# Altium integrated library TI Power Management Battery Management.IntLib: 949 symbols (part 19 of 62)
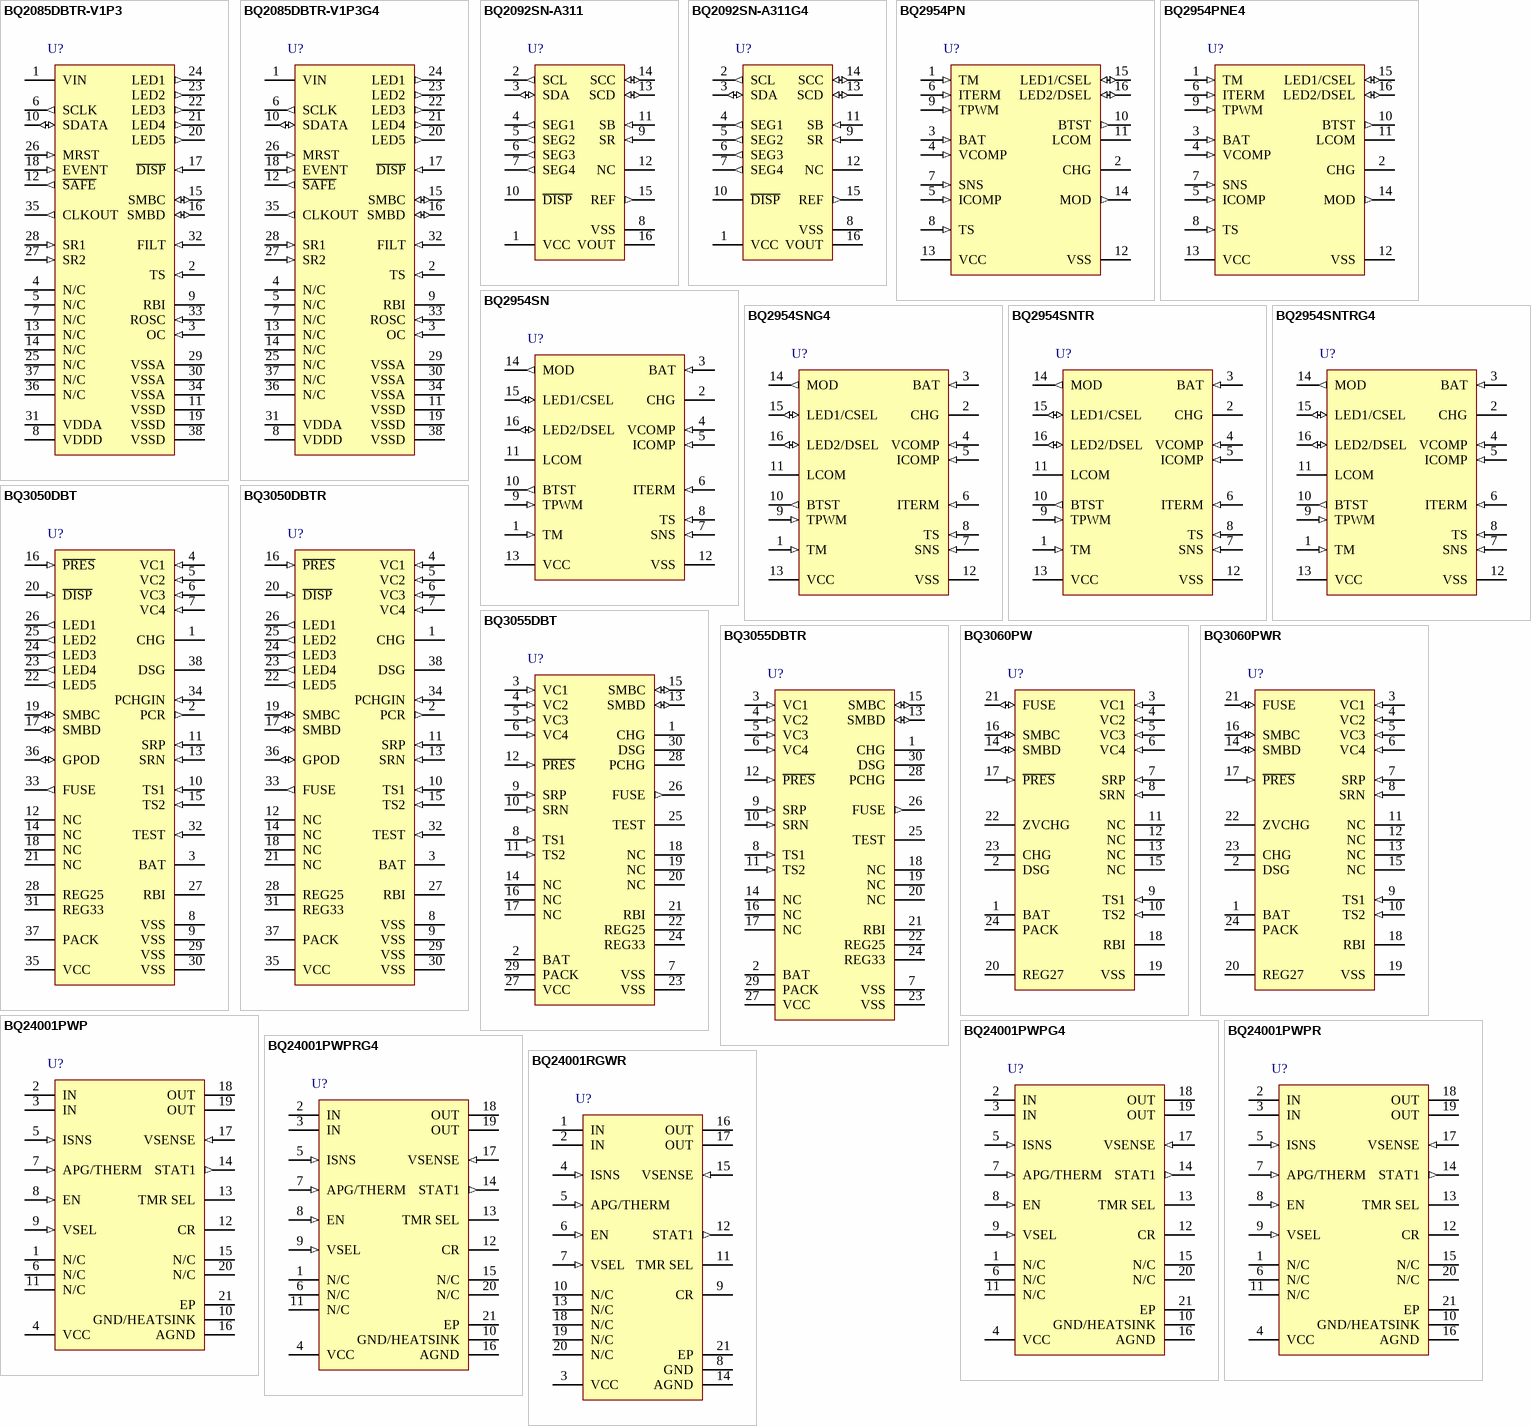
[diagram p52: symbols BQ2085DBTR-V1P3 to BQ24001RGWR]

## BQ2954SNTRG4
designator U?
Switch-Mode Li-Ion Charge Controller, 4.5 V, 0 to 70 degC, 16-pin SOIC (D), Green (RoHS & no Sb/Br); PartNumber: BQ2954SNTRG4; Manufacturer: Texas Instruments; Lead Acid: N; Li-Ion: Y; SubFamily: Battery Charge Management; Vin(Min)(V): 4.5; DatasheetVersion: SLUS064; PackageVersion: revM, Jun-2011; PackageReference: D16; PackageDescription: 16-Pin Plastic Small Outline Integrated Circuit, 9.9 x 3.9 mm, Pitch 1.27 mm Pitch; Supplier 1: Digi-Key; Supplier Part Number 1: BQ2954SNTRG4-ND; Supplier 2: Newark; Supplier Part Number 2: 24K4405; Supplier 3: Mouser; Supplier Part Number 3: 595-BQ2954SNTRG4; Eco-Plan: Green (RoHS & no Sb/Br); Li-Polymer: Y; NiCd: N; NiMH: N; Over Voltage Protection: N; Mounting Technology: Surface Mount; Code_JEDEC: MS-012AC; ComponentLink1Description: Datasheet; ComponentLink1URL: http://www.ti.com/general/docs/lit/getliterature.tsp?genericPartNumber=BQ2954&fileType=pdf
footprint D16_N (SOIC, 16-Leads, Body 9.9x3.9mm, Pitch 1.27mm, IPC Medium Density)
footprint D16_L (SOIC, 16-Leads, Body 9.9x3.9mm, Pitch 1.27mm, IPC High Density)
footprint D16_M (SOIC, 16-Leads, Body 9.9x3.9mm, Pitch 1.27mm, IPC Low Density)
pins: 1 TM (in) "Time-out programming input", 2 CHG (oc) "Charge active output", 3 BAT (in) "Battery voltage input", 4 VCOMP (in) "Voltage loop comp input", 5 ICOMP (in) "Current loop comp input", 6 ITERM (in) "Minimum current termination select input", 7 SNS (in) "Sense resistor input", 8 TS (in) "Temperature sense input", 9 TPWM (in) "Regulator timebase input", 10 BTST (out) "Battery test output", 11 LCOM (hiz) "Common LED output", 12 VSS (power) "System ground", 13 VCC (power) "5.0V+/-10% power", 14 MOD (out) "Modulation control output", 15 LED1/CSEL (io) "Charge status output 1/Charge sense select input", 16 LED2/DSEL (io) "Charge status output 2/Display select input"

## BQ3050DBT
designator U?
SBS 1.1-Compliant 2S to 4S Battery Gas Gauge & Protection, -40 to 85 degC, 38-pin TSSOP (DBT), Green (RoHS & no Sb/Br); PartNumber: BQ3050DBT; Manufacturer: Texas Instruments; Lead Acid: N; Li-Ion: Y; SubFamily: Battery Fuel Gauge; DatasheetVersion: SLUSA92A; PackageVersion: revI, Mar-2011; PackageReference: DBT38; PackageDescription: 38-Pin Plastic Small Outline 0.5 mm Pitch; Supplier 1: Digi-Key; Supplier Part Number 1: BQ3050DBT-ND; Supplier 2: Newark; Supplier Part Number 2: 86T9107; Supplier 3: Mouser; Supplier Part Number 3: 595-BQ3050DBT; Eco-Plan: Green (RoHS & no Sb/Br); Li-Polymer: Y; NiCd: N; NiMH: N; Over Voltage Protection: N; Mounting Technology: Surface Mount; Code_JEDEC: MO-153; ComponentLink1Description: Datasheet; ComponentLink1URL: http://www.ti.com/general/docs/lit/getliterature.tsp?genericPartNumber=BQ3050&fileType=pdf
footprint DBT38_N (TSSOP, 38-Leads, Body 9.7x4.4mm, Pitch 0.5mm, IPC Medium Density)
footprint DBT38_L (TSSOP, 38-Leads, Body 9.7x4.4mm, Pitch 0.5mm, IPC High Density)
footprint DBT38_M (TSSOP, 38-Leads, Body 9.7x4.4mm, Pitch 0.5mm, IPC Low Density)
pins: 1 CHG "Charge N-FET gate drive", 2 PCR (out) "Internal Pre-Charge FET output", 3 BAT (power) "Alternate power source", 4 VC1 (in) "Sense input for positive voltage of top most cell in stack and cell balancing input for top most cell in stack", 5 VC2 (in) "Sense input for positive voltage of third lowest cell in stack and cell balancing input for third lowest cell in stack", 6 VC3 (in) "Sense input for positive voltage of second lowest cell in stack and cell balancing input for second lowest cell in stack", 7 VC4 (in) "Sense input for positive voltage of lowest cell in stack and cell balancing input for lowest cell in stack", 8 VSS (power) "Device ground", 9 VSS (power) "Device ground", 10 TS1 (in) "Temperature sensor 1 thermistor input", 11 SRP (in) "Differential Coulomb Counter input", 12 NC (power) "Not internally connected, connect to VSS", 13 SRN (in) "Differential Coulomb Counter input", 14 NC (power) "Not internally connected, connect to VSS", 15 TS2 (in) "Temperature sensor 2 thermistor input", 16 ~{PRES} (in) "Host system present input", 17 SMBD (io) "SMBus v1.1 data line", 18 NC (power) "Not internally connected, connect to VSS", 19 SMBC (io) "SMBus v1.1 clock line", 20 ~{DISP} (in) "Display active input", 21 NC (power) "Not internally connected, connect to VSS", 22 LED5 (out) "LED display constant current sink", 23 LED4 (out) "LED display constant current sink", 24 LED3 (out) "LED display constant current sink", 25 LED2 (out) "LED display constant current sink", 26 LED1 (out) "LED display constant current sink", 27 RBI (power) "RAM backup", 28 REG25 (power) "2.5-V regulator output", 29 VSS (power) "Device ground", 30 VSS (power) "Device ground", 31 REG33 (power) "3.3-V regulator output", 32 TEST (in) "Test pin, connect to VSS through 10-k ohm resistor", 33 FUSE (out) "Fuse drive", 34 PCHGIN (in) "Internal Pre-Charge FET input", 35 VCC (power) "Power supply voltage", 36 GPOD (io) "High voltage general purpose I/O", 37 PACK (power) "Alternate power source", 38 DSG "Discharge N-FET gate drive"

## BQ3050DBTR
designator U?
SBS 1.1-Compliant 2S to 4S Battery Gas Gauge & Protection, -40 to 85 degC, 38-pin TSSOP (DBT), Green (RoHS & no Sb/Br); PartNumber: BQ3050DBTR; Manufacturer: Texas Instruments; Lead Acid: N; Li-Ion: Y; SubFamily: Battery Fuel Gauge; DatasheetVersion: SLUSA92A; PackageVersion: revI, Mar-2011; PackageReference: DBT38; PackageDescription: 38-Pin Plastic Small Outline 0.5 mm Pitch; Supplier 1: Digi-Key; Supplier Part Number 1: BQ3050DBTR-ND; Supplier 2: Newark; Supplier Part Number 2: 86T9108; Supplier 3: Mouser; Supplier Part Number 3: 595-BQ3050DBTR; Eco-Plan: Green (RoHS & no Sb/Br); Li-Polymer: Y; NiCd: N; NiMH: N; Over Voltage Protection: N; Mounting Technology: Surface Mount; Code_JEDEC: MO-153; ComponentLink1Description: Datasheet; ComponentLink1URL: http://www.ti.com/general/docs/lit/getliterature.tsp?genericPartNumber=BQ3050&fileType=pdf
footprint DBT38_N (TSSOP, 38-Leads, Body 9.7x4.4mm, Pitch 0.5mm, IPC Medium Density)
footprint DBT38_L (TSSOP, 38-Leads, Body 9.7x4.4mm, Pitch 0.5mm, IPC High Density)
footprint DBT38_M (TSSOP, 38-Leads, Body 9.7x4.4mm, Pitch 0.5mm, IPC Low Density)
pins: 1 CHG "Charge N-FET gate drive", 2 PCR (out) "Internal Pre-Charge FET output", 3 BAT (power) "Alternate power source", 4 VC1 (in) "Sense input for positive voltage of top most cell in stack and cell balancing input for top most cell in stack", 5 VC2 (in) "Sense input for positive voltage of third lowest cell in stack and cell balancing input for third lowest cell in stack", 6 VC3 (in) "Sense input for positive voltage of second lowest cell in stack and cell balancing input for second lowest cell in stack", 7 VC4 (in) "Sense input for positive voltage of lowest cell in stack and cell balancing input for lowest cell in stack", 8 VSS (power) "Device ground", 9 VSS (power) "Device ground", 10 TS1 (in) "Temperature sensor 1 thermistor input", 11 SRP (in) "Differential Coulomb Counter input", 12 NC (power) "Not internally connected, connect to VSS", 13 SRN (in) "Differential Coulomb Counter input", 14 NC (power) "Not internally connected, connect to VSS", 15 TS2 (in) "Temperature sensor 2 thermistor input", 16 ~{PRES} (in) "Host system present input", 17 SMBD (io) "SMBus v1.1 data line", 18 NC (power) "Not internally connected, connect to VSS", 19 SMBC (io) "SMBus v1.1 clock line", 20 ~{DISP} (in) "Display active input", 21 NC (power) "Not internally connected, connect to VSS", 22 LED5 (out) "LED display constant current sink", 23 LED4 (out) "LED display constant current sink", 24 LED3 (out) "LED display constant current sink", 25 LED2 (out) "LED display constant current sink", 26 LED1 (out) "LED display constant current sink", 27 RBI (power) "RAM backup", 28 REG25 (power) "2.5-V regulator output", 29 VSS (power) "Device ground", 30 VSS (power) "Device ground", 31 REG33 (power) "3.3-V regulator output", 32 TEST (in) "Test pin, connect to VSS through 10-k ohm resistor", 33 FUSE (out) "Fuse drive", 34 PCHGIN (in) "Internal Pre-Charge FET input", 35 VCC (power) "Power supply voltage", 36 GPOD (io) "High voltage general purpose I/O", 37 PACK (power) "Alternate power source", 38 DSG "Discharge N-FET gate drive"

## BQ3055DBT
designator U?
2-Series, 3-Series, and 4-Series Li-Ion Battery Pack Manager, -40 to 85 degC, 30-pin TSSOP (DBT), Green (RoHS & no Sb/Br); PartNumber: BQ3055DBT; Manufacturer: Texas Instruments; Lead Acid: N; Li-Ion: Y; SubFamily: Battery Fuel Gauge; DatasheetVersion: SLUSA91A; PackageVersion: 38596; PackageReference: DBT30; PackageDescription: 30-Pin Thin Shrink Small Outline Package 0.5 mm Pitch; Supplier 1: Digi-Key; Supplier Part Number 1: BQ3055DBT-ND; Supplier 2: Newark; Supplier Part Number 2: 92T2014; Supplier 3: Mouser; Supplier Part Number 3: 595-BQ3055DBT; Eco-Plan: Green (RoHS & no Sb/Br); Li-Polymer: Y; NiCd: N; NiMH: N; Over Voltage Protection: N; Mounting Technology: Surface Mount; Code_JEDEC: MO-153; ComponentLink1Description: Datasheet; ComponentLink1URL: http://www.ti.com/general/docs/lit/getliterature.tsp?genericPartNumber=BQ3055&fileType=pdf
footprint DBT30_N (TSSOP, 30-Leads, Body 7.8x4.4mm, Pitch 0.5mm, IPC Medium Density)
footprint DBT30_L (TSSOP, 30-Leads, Body 7.8x4.4mm, Pitch 0.5mm, IPC High Density)
footprint DBT30_M (TSSOP, 30-Leads, Body 7.8x4.4mm, Pitch 0.5mm, IPC Low Density)
pins: 1 CHG "Charge N-FET gate drive", 2 BAT (power) "Alternate power source", 3 VC1 (in) "Sense input for positive voltage of top most cell in stack and cell balancing input for top most cell in stack", 4 VC2 (in) "Sense input for positive voltage of third lowest cell in stack and cell balancing input for third lowest cell in stack", 5 VC3 (in) "Sense input for positive voltage of second lowest cell in stack and cell balancing input for second lowest cell in stack", 6 VC4 (in) "Sense input for positive voltage of lowest cell in stack and cell balancing input for lowest cell in stack", 7 VSS (power) "Device ground", 8 TS1 (in) "Temperature sensor 1 thermistor input", 9 SRP (in) "Differential Coulomb Counter input", 10 SRN (in) "Differential Coulomb Counter input", 11 TS2 (in) "Temperature sensor 2 thermistor input", 12 ~{PRES} (in) "Host system present input", 13 SMBD (io) "SMBus v1.1 data line", 14 NC (power) "Not internally connected, connect to VSS", 15 SMBC (io) "SMBus v1.1 clock line", 16 NC (power) "Not internally connected, connect to VSS", 17 NC (power) "Not internally connected, connect to VSS", 18 NC (power) "Not internally connected, connect to VSS", 19 NC (power) "Not internally connected, connect to VSS", 20 NC (power) "Not internally connected, connect to VSS", 21 RBI (power) "RAM backup", 22 REG25 (power) "2.5-V regulator output", 23 VSS (power) "Device ground", 24 REG33 (power) "3.3-V regulator output", 25 TEST "Test pin, connect to VSS through 2-k ohm resistor", 26 FUSE (out) "Fuse drive", 27 VCC (power) "Power supply voltage", 28 PCHG "Pre-charge P-FET gate drive", 29 PACK (power) "Alternate power source", 30 DSG "Discharge N-FET gate drive"

## BQ3055DBTR
designator U?
2-Series, 3-Series, and 4-Series Li-Ion Battery Pack Manager, -40 to 85 degC, 30-pin TSSOP (DBT), Green (RoHS & no Sb/Br); PartNumber: BQ3055DBTR; Manufacturer: Texas Instruments; Lead Acid: N; Li-Ion: Y; SubFamily: Battery Fuel Gauge; DatasheetVersion: SLUSA91A; PackageVersion: 38596; PackageReference: DBT30; PackageDescription: 30-Pin Thin Shrink Small Outline Package 0.5 mm Pitch; Supplier 1: Digi-Key; Supplier Part Number 1: 296-30286-2-ND; Supplier 2: Digi-Key; Supplier Part Number 2: 296-30286-1-ND; Supplier 3: Digi-Key; Supplier Part Number 3: 296-30286-6-ND; Supplier 4: Newark; Supplier Part Number 4: 92T3404; Supplier 5: Mouser; Supplier Part Number 5: 595-BQ3055DBTR; Eco-Plan: Green (RoHS & no Sb/Br); Li-Polymer: Y; NiCd: N; NiMH: N; Over Voltage Protection: N; Mounting Technology: Surface Mount; Code_JEDEC: MO-153; ComponentLink1Description: Datasheet; ComponentLink1URL: http://www.ti.com/general/docs/lit/getliterature.tsp?genericPartNumber=BQ3055&fileType=pdf
footprint DBT30_N (TSSOP, 30-Leads, Body 7.8x4.4mm, Pitch 0.5mm, IPC Medium Density)
footprint DBT30_L (TSSOP, 30-Leads, Body 7.8x4.4mm, Pitch 0.5mm, IPC High Density)
footprint DBT30_M (TSSOP, 30-Leads, Body 7.8x4.4mm, Pitch 0.5mm, IPC Low Density)
pins: 1 CHG "Charge N-FET gate drive", 2 BAT (power) "Alternate power source", 3 VC1 (in) "Sense input for positive voltage of top most cell in stack and cell balancing input for top most cell in stack", 4 VC2 (in) "Sense input for positive voltage of third lowest cell in stack and cell balancing input for third lowest cell in stack", 5 VC3 (in) "Sense input for positive voltage of second lowest cell in stack and cell balancing input for second lowest cell in stack", 6 VC4 (in) "Sense input for positive voltage of lowest cell in stack and cell balancing input for lowest cell in stack", 7 VSS (power) "Device ground", 8 TS1 (in) "Temperature sensor 1 thermistor input", 9 SRP (in) "Differential Coulomb Counter input", 10 SRN (in) "Differential Coulomb Counter input", 11 TS2 (in) "Temperature sensor 2 thermistor input", 12 ~{PRES} (in) "Host system present input", 13 SMBD (io) "SMBus v1.1 data line", 14 NC (power) "Not internally connected, connect to VSS", 15 SMBC (io) "SMBus v1.1 clock line", 16 NC (power) "Not internally connected, connect to VSS", 17 NC (power) "Not internally connected, connect to VSS", 18 NC (power) "Not internally connected, connect to VSS", 19 NC (power) "Not internally connected, connect to VSS", 20 NC (power) "Not internally connected, connect to VSS", 21 RBI (power) "RAM backup", 22 REG25 (power) "2.5-V regulator output", 23 VSS (power) "Device ground", 24 REG33 (power) "3.3-V regulator output", 25 TEST "Test pin, connect to VSS through 2-k ohm resistor", 26 FUSE (out) "Fuse drive", 27 VCC (power) "Power supply voltage", 28 PCHG "Pre-charge P-FET gate drive", 29 PACK (power) "Alternate power source", 30 DSG "Discharge N-FET gate drive"

## BQ3060PW
designator U?
SBS 1.1-Compliant Gas Gauge and Protector, -40 to 85 degC, 24-pin TSSOP (PW), Green (RoHS & no Sb/Br); PartNumber: BQ3060PW; Manufacturer: Texas Instruments; Lead Acid: N; SubFamily: Battery Fuel Gauge; DatasheetVersion: SLUS928A; PackageVersion: revG, Feb-2011; PackageReference: PW24; PackageDescription: 24-Pin Thin Small Outline Package 0.65 mm Pitch; Supplier 1: Digi-Key; Supplier Part Number 1: 296-25544-5-ND; Supplier 2: Newark; Supplier Part Number 2: 63R9864; Supplier 3: Mouser; Supplier Part Number 3: 595-BQ3060PW; Eco-Plan: Green (RoHS & no Sb/Br); Li-Ion: N; Li-Polymer: N; NiCd: N; NiMH: N; Over Voltage Protection: N; Mounting Technology: Surface Mount; Code_JEDEC: MO-153; ComponentLink1Description: Datasheet; ComponentLink1URL: http://www.ti.com/general/docs/lit/getliterature.tsp?genericPartNumber=BQ3060&fileType=pdf
footprint PW24_N (TSOP, 24-Leads, Body 7.8x4.4mm, Pitch 0.65mm, IPC Medium Density)
footprint PW24_L (TSOP, 24-Leads, Body 7.8x4.4mm, Pitch 0.65mm, IPC High Density)
footprint PW24_M (TSOP, 24-Leads, Body 7.8x4.4mm, Pitch 0.65mm, IPC Low Density)
pins: 1 BAT (power) "Power input from battery", 2 DSG "P-CH FET Drive controlling discharge", 3 VC1 (in) "Sense voltage input terminal and external cell balancing drive output for most positive cell, and battery stack measurement input.", 4 VC2 (in) "Sense voltage input terminal and external cell balancing drive output for second most positive cell.", 5 VC3 (in) "Sense voltage input terminal and external cell balancing drive output for third most positive cell.", 6 VC4 (in) "Sense voltage input terminal and external cell balancing drive output for least positive cell.", 7 SRP (in) "Analog input pin connected to the internal coulomb-counter peripheral for integrating a small voltage between SRP and SRN where SRP is the top of the sense resistor.", 8 SRN (in) "Analog input pin connected to the internal coulomb-counter peripheral for integrating a small voltage between SRP and SRN where SRN is the bottom of the sense resistor.", 9 TS1 (in) "Thermistor input TS1", 10 TS2 (in) "Thermistor input TS2", 11 NC "Keep this pin floating", 12 NC "Keep this pin floating", 13 NC "Keep this pin floating", 14 SMBD (io) "SMBus data pin", 15 NC "Keep this pin floating", 16 SMBC (io) "SMBus clock pin", 17 ~{PRES} (in) "Active low input to sense system insertion and typically requires additional ESD protection", 18 RBI (power) "RAM backup pin to provide backup potential to the internal DATA RAM if power is momentarily lost by using a capacitor attached between RBI and VSS", 19 VSS (power) "Device ground", 20 REG27 (power) "Internal power supply 2.7V bias output", 21 FUSE (io) "Push-pull fuse drive and secondary protector activation input sensing", 22 ZVCHG "P-CH precharge FET Drive controlling pre-charge and zero-volt charge", 23 CHG "P-CH FET Drive controlling charge", 24 PACK (power) "PACK positive terminal and alternative power source"

## BQ3060PWR
designator U?
SBS 1.1-Compliant Gas Gauge and Protector, -40 to 85 degC, 24-pin TSSOP (PW), Green (RoHS & no Sb/Br); PartNumber: BQ3060PWR; Manufacturer: Texas Instruments; Lead Acid: N; SubFamily: Battery Fuel Gauge; DatasheetVersion: SLUS928A; PackageVersion: revG, Feb-2011; PackageReference: PW24; PackageDescription: 24-Pin Thin Small Outline Package 0.65 mm Pitch; Supplier 1: Digi-Key; Supplier Part Number 1: BQ3060PWR-ND; Supplier 2: Newark; Supplier Part Number 2: 63R9865; Supplier 3: Mouser; Supplier Part Number 3: 595-BQ3060PWR; Eco-Plan: Green (RoHS & no Sb/Br); Li-Ion: N; Li-Polymer: N; NiCd: N; NiMH: N; Over Voltage Protection: N; Mounting Technology: Surface Mount; Code_JEDEC: MO-153; ComponentLink1Description: Datasheet; ComponentLink1URL: http://www.ti.com/general/docs/lit/getliterature.tsp?genericPartNumber=BQ3060&fileType=pdf
footprint PW24_N (TSOP, 24-Leads, Body 7.8x4.4mm, Pitch 0.65mm, IPC Medium Density)
footprint PW24_L (TSOP, 24-Leads, Body 7.8x4.4mm, Pitch 0.65mm, IPC High Density)
footprint PW24_M (TSOP, 24-Leads, Body 7.8x4.4mm, Pitch 0.65mm, IPC Low Density)
pins: 1 BAT (power) "Power input from battery", 2 DSG "P-CH FET Drive controlling discharge", 3 VC1 (in) "Sense voltage input terminal and external cell balancing drive output for most positive cell, and battery stack measurement input.", 4 VC2 (in) "Sense voltage input terminal and external cell balancing drive output for second most positive cell.", 5 VC3 (in) "Sense voltage input terminal and external cell balancing drive output for third most positive cell.", 6 VC4 (in) "Sense voltage input terminal and external cell balancing drive output for least positive cell.", 7 SRP (in) "Analog input pin connected to the internal coulomb-counter peripheral for integrating a small voltage between SRP and SRN where SRP is the top of the sense resistor.", 8 SRN (in) "Analog input pin connected to the internal coulomb-counter peripheral for integrating a small voltage between SRP and SRN where SRN is the bottom of the sense resistor.", 9 TS1 (in) "Thermistor input TS1", 10 TS2 (in) "Thermistor input TS2", 11 NC "Keep this pin floating", 12 NC "Keep this pin floating", 13 NC "Keep this pin floating", 14 SMBD (io) "SMBus data pin", 15 NC "Keep this pin floating", 16 SMBC (io) "SMBus clock pin", 17 ~{PRES} (in) "Active low input to sense system insertion and typically requires additional ESD protection", 18 RBI (power) "RAM backup pin to provide backup potential to the internal DATA RAM if power is momentarily lost by using a capacitor attached between RBI and VSS", 19 VSS (power) "Device ground", 20 REG27 (power) "Internal power supply 2.7V bias output", 21 FUSE (io) "Push-pull fuse drive and secondary protector activation input sensing", 22 ZVCHG "P-CH precharge FET Drive controlling pre-charge and zero-volt charge", 23 CHG "P-CH FET Drive controlling charge", 24 PACK (power) "PACK positive terminal and alternative power source"

## BQ24001PWP
designator U?
Linear 1 Cell Li-Ion Battery Charger with Integrated FET, One LED, 4.5 V, 0 to 70 degC, 20-pin HTSSOP (PWP), Green (RoHS & no Sb/Br); PartNumber: BQ24001PWP; Manufacturer: Texas Instruments; Lead Acid: N; Li-Ion: Y; SubFamily: Battery Charge Management; Vin(Min)(V): 4.5; DatasheetVersion: SLUS462E; PackageVersion: revI, May-2011; PackageReference: PWP20-3005X2005TP; PackageDescription: 20-Pin PowerPAD Plastic Small Outline 6.5 x 4.4 mm Body ,0.65 mm Pitch, Exposed Pad; Supplier 1: Digi-Key; Supplier Part Number 1: 296-9378-5-ND; Supplier 2: Farnell; Supplier Part Number 2: 2099952; Supplier 3: Newark; Supplier Part Number 3: 06W0652; Supplier 4: Newark; Supplier Part Number 4: 74C7630; Supplier 5: Mouser; Supplier Part Number 5: 595-BQ24001PWP; Eco-Plan: Green (RoHS & no Sb/Br); Li-Polymer: Y; NiCd: N; NiMH: N; Over Voltage Protection: N; Mounting Technology: Surface Mount; Code_JEDEC: MO-153; ComponentLink1Description: Datasheet; ComponentLink1URL: http://www.ti.com/general/docs/lit/getliterature.tsp?genericPartNumber=BQ24001&fileType=pdf
footprint PWP20-3005X2005TP_N (TSOP, 20-Leads, Body 6.5x4.4mm, Pitch 0.65mm, Thermal Pad 3.7x2.4 mm, IPC Medium Density)
footprint PWP20-3005X2005TP_L (TSOP, 20-Leads, Body 6.5x4.4mm, Pitch 0.65mm, Thermal Pad 3.7x2.4 mm, IPC High Density)
footprint PWP20-3005X2005TP_M (TSOP, 20-Leads, Body 6.5x4.4mm, Pitch 0.65mm, Thermal Pad 3.7x2.4 mm, IPC Low Density)
pins: 1 N/C "No connect. These pins must be left floating. Pin 15 is N/C on bq24001PWP only. Pin 13 is N/C on bq24001RGW only.", 2 IN (power) "Input voltage. This input provides the charging voltage for the battery.", 3 IN (power) "Input voltage. This input provides the charging voltage for the battery.", 4 VCC (power) "Supply voltage", 5 ISNS (in) "Current sense input", 6 N/C "No connect. These pins must be left floating. Pin 15 is N/C on bq24001PWP only. Pin 13 is N/C on bq24001RGW only.", 7 APG/THERM (in) "Adapter power good input/thermistor sense input", 8 EN (in) "Charge-enable input. Active-high enable input with internal pull down. Low-current stand-by mode active when EN is low.", 9 VSEL (in) "4.1 V or 4.2 V charge regulation selection input", 10 GND/HEATSINK (power) "Ground pin; connect to PowerPAD heat-sink layout pattern.", 11 N/C "No connect. These pins must be left floating. Pin 15 is N/C on bq24001PWP only. Pin 13 is N/C on bq24001RGW only.", 12 CR "Internal regulator bypass capacitor", 13 TMR SEL "Charge timer selection input", 14 STAT1 (out) "Status display output 1", 15 N/C "No connect. These pins must be left floating. Pin 15 is N/C on bq24001PWP only. Pin 13 is N/C on bq24001RGW only.", 16 AGND (power) "Ground pin; connect close to the negative battery terminal.", 17 VSENSE (in) "Battery voltage sense input", 18 OUT (power) "Charge current output", 19 OUT (power) "Charge current output", 20 N/C "No connect. These pins must be left floating. Pin 15 is N/C on bq24001PWP only. Pin 13 is N/C on bq24001RGW only.", 21 EP (power) "Exposed pad"

## BQ24001PWPG4
designator U?
Linear 1 Cell Li-Ion Battery Charger with Integrated FET, One LED, 4.5 V, 0 to 70 degC, 20-pin HTSSOP (PWP), Green (RoHS & no Sb/Br); PartNumber: BQ24001PWPG4; Manufacturer: Texas Instruments; Lead Acid: N; Li-Ion: Y; SubFamily: Battery Charge Management; Vin(Min)(V): 4.5; DatasheetVersion: SLUS462E; PackageVersion: revI, May-2011; PackageReference: PWP20-3005X2005TP; PackageDescription: 20-Pin PowerPAD Plastic Small Outline 6.5 x 4.4 mm Body ,0.65 mm Pitch, Exposed Pad; Supplier 1: Digi-Key; Supplier Part Number 1: BQ24001PWPG4-ND; Supplier 2: Newark; Supplier Part Number 2: 02M2404; Supplier 3: Mouser; Supplier Part Number 3: 595-BQ24001PWPG4; Eco-Plan: Green (RoHS & no Sb/Br); Li-Polymer: Y; NiCd: N; NiMH: N; Over Voltage Protection: N; Mounting Technology: Surface Mount; Code_JEDEC: MO-153; ComponentLink1Description: Datasheet; ComponentLink1URL: http://www.ti.com/general/docs/lit/getliterature.tsp?genericPartNumber=BQ24001&fileType=pdf
footprint PWP20-3005X2005TP_N (TSOP, 20-Leads, Body 6.5x4.4mm, Pitch 0.65mm, Thermal Pad 3.7x2.4 mm, IPC Medium Density)
footprint PWP20-3005X2005TP_L (TSOP, 20-Leads, Body 6.5x4.4mm, Pitch 0.65mm, Thermal Pad 3.7x2.4 mm, IPC High Density)
footprint PWP20-3005X2005TP_M (TSOP, 20-Leads, Body 6.5x4.4mm, Pitch 0.65mm, Thermal Pad 3.7x2.4 mm, IPC Low Density)
pins: 1 N/C "No connect. These pins must be left floating. Pin 15 is N/C on bq24001PWP only. Pin 13 is N/C on bq24001RGW only.", 2 IN (power) "Input voltage. This input provides the charging voltage for the battery.", 3 IN (power) "Input voltage. This input provides the charging voltage for the battery.", 4 VCC (power) "Supply voltage", 5 ISNS (in) "Current sense input", 6 N/C "No connect. These pins must be left floating. Pin 15 is N/C on bq24001PWP only. Pin 13 is N/C on bq24001RGW only.", 7 APG/THERM (in) "Adapter power good input/thermistor sense input", 8 EN (in) "Charge-enable input. Active-high enable input with internal pull down. Low-current stand-by mode active when EN is low.", 9 VSEL (in) "4.1 V or 4.2 V charge regulation selection input", 10 GND/HEATSINK (power) "Ground pin; connect to PowerPAD heat-sink layout pattern.", 11 N/C "No connect. These pins must be left floating. Pin 15 is N/C on bq24001PWP only. Pin 13 is N/C on bq24001RGW only.", 12 CR "Internal regulator bypass capacitor", 13 TMR SEL "Charge timer selection input", 14 STAT1 (out) "Status display output 1", 15 N/C "No connect. These pins must be left floating. Pin 15 is N/C on bq24001PWP only. Pin 13 is N/C on bq24001RGW only.", 16 AGND (power) "Ground pin; connect close to the negative battery terminal.", 17 VSENSE (in) "Battery voltage sense input", 18 OUT (power) "Charge current output", 19 OUT (power) "Charge current output", 20 N/C "No connect. These pins must be left floating. Pin 15 is N/C on bq24001PWP only. Pin 13 is N/C on bq24001RGW only.", 21 EP (power) "Exposed pad"

## BQ24001PWPR
designator U?
Linear 1 Cell Li-Ion Battery Charger with Integrated FET, One LED, 4.5 V, 0 to 70 degC, 20-pin HTSSOP (PWP), Green (RoHS & no Sb/Br); PartNumber: BQ24001PWPR; Manufacturer: Texas Instruments; Lead Acid: N; Li-Ion: Y; SubFamily: Battery Charge Management; Vin(Min)(V): 4.5; DatasheetVersion: SLUS462E; PackageVersion: revI, May-2011; PackageReference: PWP20-3005X2005TP; PackageDescription: 20-Pin PowerPAD Plastic Small Outline 6.5 x 4.4 mm Body ,0.65 mm Pitch, Exposed Pad; Supplier 1: Digi-Key; Supplier Part Number 1: BQ24001PWPR-ND; Supplier 2: Newark; Supplier Part Number 2: 74C7631; Supplier 3: Mouser; Supplier Part Number 3: 595-BQ24001PWPR; Eco-Plan: Green (RoHS & no Sb/Br); Li-Polymer: Y; NiCd: N; NiMH: N; Over Voltage Protection: N; Mounting Technology: Surface Mount; Code_JEDEC: MO-153; ComponentLink1Description: Datasheet; ComponentLink1URL: http://www.ti.com/general/docs/lit/getliterature.tsp?genericPartNumber=BQ24001&fileType=pdf
footprint PWP20-3005X2005TP_N (TSOP, 20-Leads, Body 6.5x4.4mm, Pitch 0.65mm, Thermal Pad 3.7x2.4 mm, IPC Medium Density)
footprint PWP20-3005X2005TP_L (TSOP, 20-Leads, Body 6.5x4.4mm, Pitch 0.65mm, Thermal Pad 3.7x2.4 mm, IPC High Density)
footprint PWP20-3005X2005TP_M (TSOP, 20-Leads, Body 6.5x4.4mm, Pitch 0.65mm, Thermal Pad 3.7x2.4 mm, IPC Low Density)
pins: 1 N/C "No connect. These pins must be left floating. Pin 15 is N/C on bq24001PWP only. Pin 13 is N/C on bq24001RGW only.", 2 IN (power) "Input voltage. This input provides the charging voltage for the battery.", 3 IN (power) "Input voltage. This input provides the charging voltage for the battery.", 4 VCC (power) "Supply voltage", 5 ISNS (in) "Current sense input", 6 N/C "No connect. These pins must be left floating. Pin 15 is N/C on bq24001PWP only. Pin 13 is N/C on bq24001RGW only.", 7 APG/THERM (in) "Adapter power good input/thermistor sense input", 8 EN (in) "Charge-enable input. Active-high enable input with internal pull down. Low-current stand-by mode active when EN is low.", 9 VSEL (in) "4.1 V or 4.2 V charge regulation selection input", 10 GND/HEATSINK (power) "Ground pin; connect to PowerPAD heat-sink layout pattern.", 11 N/C "No connect. These pins must be left floating. Pin 15 is N/C on bq24001PWP only. Pin 13 is N/C on bq24001RGW only.", 12 CR "Internal regulator bypass capacitor", 13 TMR SEL "Charge timer selection input", 14 STAT1 (out) "Status display output 1", 15 N/C "No connect. These pins must be left floating. Pin 15 is N/C on bq24001PWP only. Pin 13 is N/C on bq24001RGW only.", 16 AGND (power) "Ground pin; connect close to the negative battery terminal.", 17 VSENSE (in) "Battery voltage sense input", 18 OUT (power) "Charge current output", 19 OUT (power) "Charge current output", 20 N/C "No connect. These pins must be left floating. Pin 15 is N/C on bq24001PWP only. Pin 13 is N/C on bq24001RGW only.", 21 EP (power) "Exposed pad"

## BQ24001PWPRG4
designator U?
Linear 1 Cell Li-Ion Battery Charger with Integrated FET, One LED, 4.5 V, 0 to 70 degC, 20-pin HTSSOP (PWP), Green (RoHS & no Sb/Br); PartNumber: BQ24001PWPRG4; Manufacturer: Texas Instruments; Lead Acid: N; Li-Ion: Y; SubFamily: Battery Charge Management; Vin(Min)(V): 4.5; DatasheetVersion: SLUS462E; PackageVersion: revI, May-2011; PackageReference: PWP20-3005X2005TP; PackageDescription: 20-Pin PowerPAD Plastic Small Outline 6.5 x 4.4 mm Body ,0.65 mm Pitch, Exposed Pad; Supplier 1: Digi-Key; Supplier Part Number 1: BQ24001PWPRG4-ND; Supplier 2: Newark; Supplier Part Number 2: 33K4793; Supplier 3: Mouser; Supplier Part Number 3: 595-BQ24001PWPRG4; Eco-Plan: Green (RoHS & no Sb/Br); Li-Polymer: Y; NiCd: N; NiMH: N; Over Voltage Protection: N; Mounting Technology: Surface Mount; Code_JEDEC: MO-153; ComponentLink1Description: Datasheet; ComponentLink1URL: http://www.ti.com/general/docs/lit/getliterature.tsp?genericPartNumber=BQ24001&fileType=pdf
footprint PWP20-3005X2005TP_N (TSOP, 20-Leads, Body 6.5x4.4mm, Pitch 0.65mm, Thermal Pad 3.7x2.4 mm, IPC Medium Density)
footprint PWP20-3005X2005TP_L (TSOP, 20-Leads, Body 6.5x4.4mm, Pitch 0.65mm, Thermal Pad 3.7x2.4 mm, IPC High Density)
footprint PWP20-3005X2005TP_M (TSOP, 20-Leads, Body 6.5x4.4mm, Pitch 0.65mm, Thermal Pad 3.7x2.4 mm, IPC Low Density)
pins: 1 N/C "No connect. These pins must be left floating. Pin 15 is N/C on bq24001PWP only. Pin 13 is N/C on bq24001RGW only.", 2 IN (power) "Input voltage. This input provides the charging voltage for the battery.", 3 IN (power) "Input voltage. This input provides the charging voltage for the battery.", 4 VCC (power) "Supply voltage", 5 ISNS (in) "Current sense input", 6 N/C "No connect. These pins must be left floating. Pin 15 is N/C on bq24001PWP only. Pin 13 is N/C on bq24001RGW only.", 7 APG/THERM (in) "Adapter power good input/thermistor sense input", 8 EN (in) "Charge-enable input. Active-high enable input with internal pull down. Low-current stand-by mode active when EN is low.", 9 VSEL (in) "4.1 V or 4.2 V charge regulation selection input", 10 GND/HEATSINK (power) "Ground pin; connect to PowerPAD heat-sink layout pattern.", 11 N/C "No connect. These pins must be left floating. Pin 15 is N/C on bq24001PWP only. Pin 13 is N/C on bq24001RGW only.", 12 CR "Internal regulator bypass capacitor", 13 TMR SEL "Charge timer selection input", 14 STAT1 (out) "Status display output 1", 15 N/C "No connect. These pins must be left floating. Pin 15 is N/C on bq24001PWP only. Pin 13 is N/C on bq24001RGW only.", 16 AGND (power) "Ground pin; connect close to the negative battery terminal.", 17 VSENSE (in) "Battery voltage sense input", 18 OUT (power) "Charge current output", 19 OUT (power) "Charge current output", 20 N/C "No connect. These pins must be left floating. Pin 15 is N/C on bq24001PWP only. Pin 13 is N/C on bq24001RGW only.", 21 EP (power) "Exposed pad"

## BQ24001RGWR
designator U?
Linear 1 Cell Li-Ion Battery Charger with Integrated FET, One LED, 4.5 V, -40 to 70 degC, 20-pin VQFN (RGW), Green (RoHS & no Sb/Br); PartNumber: BQ24001RGWR; Manufacturer: Texas Instruments; Lead Acid: N; Li-Ion: Y; SubFamily: Battery Charge Management; Vin(Min)(V): 4.5; DatasheetVersion: SLUS462E; PackageVersion: revC, Jul-2011; PackageReference: RGW20-3150X3150TP; PackageDescription: 20-Pin Plastic Quad Flat No-Lead, 5 x 5 mm Body, 0.65 mm Pitch, 3.15 x 3.15 mm Exposed Pad; Supplier 1: Digi-Key; Supplier Part Number 1: 296-12968-2-ND; Supplier 2: Digi-Key; Supplier Part Number 2: 296-12968-1-ND; Supplier 3: Digi-Key; Supplier Part Number 3: 296-12968-6-ND; Supplier 4: Farnell; Supplier Part Number 4: 2099953; Supplier 5: Newark; Supplier Part Number 5: 05W5376; Supplier 6: Newark; Supplier Part Number 6: 74C7632; Supplier 7: Mouser; Supplier Part Number 7: 595-BQ24001RGWR; Eco-Plan: Green (RoHS & no Sb/Br); Li-Polymer: Y; NiCd: N; NiMH: N; Over Voltage Protection: N; Mounting Technology: Surface Mount; Code_JEDEC: MO-220; ComponentLink1Description: Datasheet; ComponentLink1URL: http://www.ti.com/general/docs/lit/getliterature.tsp?genericPartNumber=BQ24001&fileType=pdf
footprint RGW20-3150X3150TP (QFN, 20-Leads, Body 5x5mm, Pitch 0.65mm, Thermal Pad 3.15x3.15mm, TI Recommended)
pins: 1 IN (power) "Input voltage. This input provides the charging voltage for the battery.", 2 IN (power) "Input voltage. This input provides the charging voltage for the battery.", 3 VCC (power) "Supply voltage", 4 ISNS (in) "Current sense input", 5 APG/THERM (in) "Adapter power good input/thermistor sense input", 6 EN (in) "Charge-enable input. Active-high enable input with internal pull down. Low-current stand-by mode active when EN is low.", 7 VSEL (in) "4.1 V or 4.2 V charge regulation selection input", 8 GND (power) "Ground pin; connect to PowerPAD heat-sink layout pattern.", 9 CR "Internal regulator bypass capacitor", 10 N/C "No connect. These pins must be left floating.", 11 TMR SEL "Charge timer selection input", 12 STAT1 (out) "Status display output 1", 13 N/C "No connect. These pins must be left floating. Pin 13 is N/C on bq24001RGW only.", 14 AGND (power) "Ground pin; connect close to the negative battery terminal.", 15 VSENSE (in) "Battery voltage sense input", 16 OUT (power) "Charge current output", 17 OUT (power) "Charge current output", 18 N/C "No connect. These pins must be left floating.", 19 N/C "No connect. These pins must be left floating.", 20 N/C "No connect. These pins must be left floating.", 21 EP (power) "Thermal Pad"

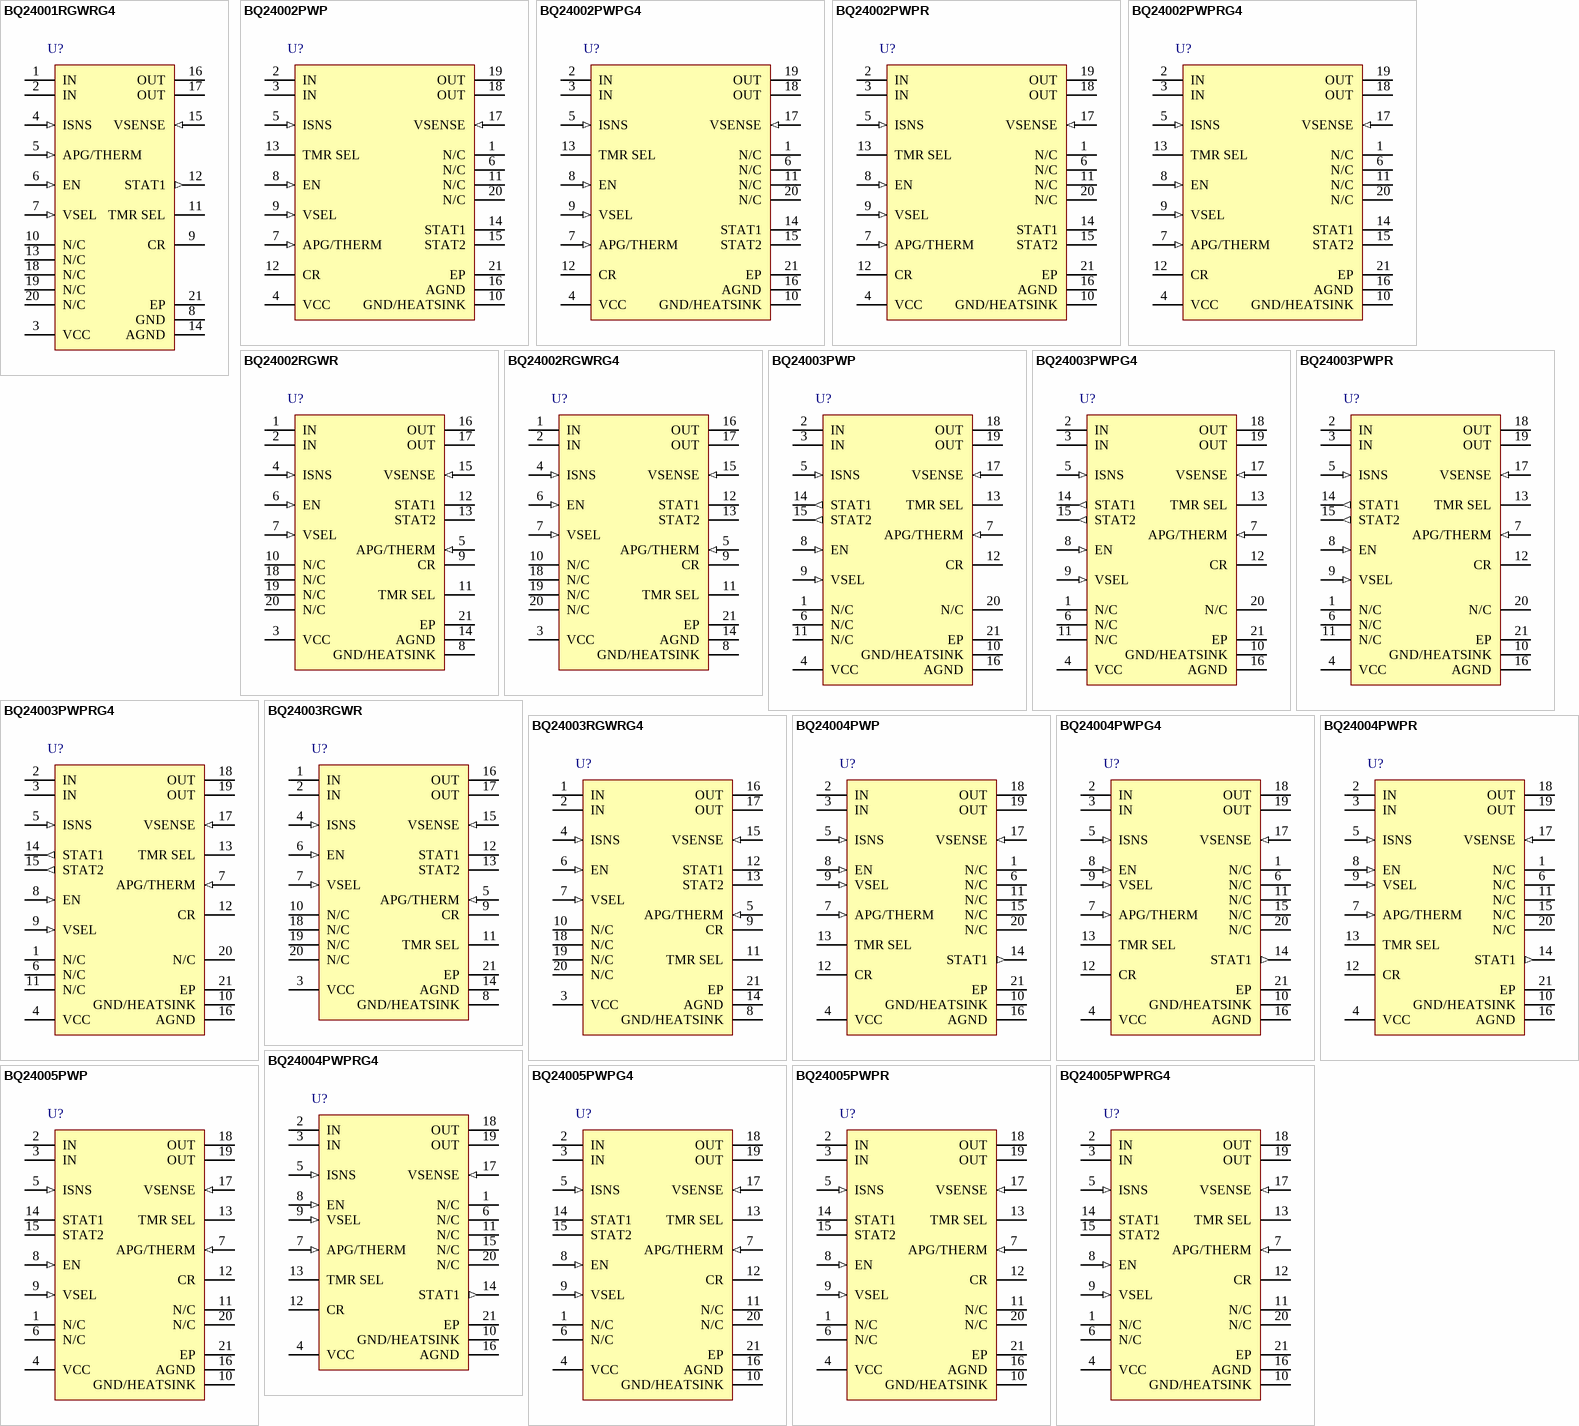
[diagram p11: symbols BQ24001RGWRG4 to BQ24005PWPRG4]

## BQ24001RGWRG4
designator U?
Linear 1 Cell Li-Ion Battery Charger with Integrated FET, One LED, 4.5 V, -40 to 70 degC, 20-pin VQFN (RGW), Green (RoHS & no Sb/Br); PartNumber: BQ24001RGWRG4; Manufacturer: Texas Instruments; Lead Acid: N; Li-Ion: Y; SubFamily: Battery Charge Management; Vin(Min)(V): 4.5; DatasheetVersion: SLUS462E; PackageVersion: revC, Jul-2011; PackageReference: RGW20-3150X3150TP; PackageDescription: 20-Pin Plastic Quad Flat No-Lead, 5 x 5 mm Body, 0.65 mm Pitch, 3.15 x 3.15 mm Exposed Pad; Supplier 1: Digi-Key; Supplier Part Number 1: BQ24001RGWRG4-ND; Supplier 2: Newark; Supplier Part Number 2: 53K9236; Supplier 3: Mouser; Supplier Part Number 3: 595-BQ24001RGWRG4; Eco-Plan: Green (RoHS & no Sb/Br); Li-Polymer: Y; NiCd: N; NiMH: N; Over Voltage Protection: N; Mounting Technology: Surface Mount; Code_JEDEC: MO-220; ComponentLink1Description: Datasheet; ComponentLink1URL: http://www.ti.com/general/docs/lit/getliterature.tsp?genericPartNumber=BQ24001&fileType=pdf
footprint RGW20-3150X3150TP (QFN, 20-Leads, Body 5x5mm, Pitch 0.65mm, Thermal Pad 3.15x3.15mm, TI Recommended)
pins: 1 IN (power) "Input voltage. This input provides the charging voltage for the battery.", 2 IN (power) "Input voltage. This input provides the charging voltage for the battery.", 3 VCC (power) "Supply voltage", 4 ISNS (in) "Current sense input", 5 APG/THERM (in) "Adapter power good input/thermistor sense input", 6 EN (in) "Charge-enable input. Active-high enable input with internal pull down. Low-current stand-by mode active when EN is low.", 7 VSEL (in) "4.1 V or 4.2 V charge regulation selection input", 8 GND (power) "Ground pin; connect to PowerPAD heat-sink layout pattern.", 9 CR "Internal regulator bypass capacitor", 10 N/C "No connect. These pins must be left floating.", 11 TMR SEL "Charge timer selection input", 12 STAT1 (out) "Status display output 1", 13 N/C "No connect. These pins must be left floating. Pin 13 is N/C on bq24001RGW only.", 14 AGND (power) "Ground pin; connect close to the negative battery terminal.", 15 VSENSE (in) "Battery voltage sense input", 16 OUT (power) "Charge current output", 17 OUT (power) "Charge current output", 18 N/C "No connect. These pins must be left floating.", 19 N/C "No connect. These pins must be left floating.", 20 N/C "No connect. These pins must be left floating.", 21 EP (power) "Thermal Pad"

## BQ24002PWP
designator U?
Linear 1-Cell Li-Ion Battery Charger with Integrated FET, Two LED, 4.5 V, -20 to 70 degC, 20-pin HTSSOP (PWP), Green (RoHS & no Sb/Br); PartNumber: BQ24002PWP; Manufacturer: Texas Instruments; Lead Acid: N; Li-Ion: Y; SubFamily: Battery Charge Management; Vin(Min)(V): 4.5; DatasheetVersion: SLUS462E; PackageVersion: revI, May-2011; PackageReference: PWP20-3005X2005TP; PackageDescription: 20-Pin PowerPAD Plastic Small Outline 6.5 x 4.4 mm Body ,0.65 mm Pitch, Exposed Pad; Supplier 1: Digi-Key; Supplier Part Number 1: 296-9379-5-ND; Supplier 2: Newark; Supplier Part Number 2: 74C7633; Supplier 3: Mouser; Supplier Part Number 3: 595-BQ24002PWP; Eco-Plan: Green (RoHS & no Sb/Br); Li-Polymer: Y; NiCd: N; NiMH: N; Over Voltage Protection: N; Mounting Technology: Surface Mount; Code_JEDEC: MO-153; ComponentLink1Description: Datasheet; ComponentLink1URL: http://www.ti.com/general/docs/lit/getliterature.tsp?genericPartNumber=BQ24002&fileType=pdf
footprint PWP20-3005X2005TP_N (TSOP, 20-Leads, Body 6.5x4.4mm, Pitch 0.65mm, Thermal Pad 3.7x2.4 mm, IPC Medium Density)
footprint PWP20-3005X2005TP_L (TSOP, 20-Leads, Body 6.5x4.4mm, Pitch 0.65mm, Thermal Pad 3.7x2.4 mm, IPC High Density)
footprint PWP20-3005X2005TP_M (TSOP, 20-Leads, Body 6.5x4.4mm, Pitch 0.65mm, Thermal Pad 3.7x2.4 mm, IPC Low Density)
pins: 1 N/C "No connect. These pins must be left floating.", 2 IN (power) "Input voltage. This input provides the charging voltage for the battery.", 3 IN (power) "Input voltage. This input provides the charging voltage for the battery.", 4 VCC (power) "Supply voltage", 5 ISNS (in) "Current sense input", 6 N/C "No connect. These pins must be left floating.", 7 APG/THERM (in) "Adapter power good input/thermistor sense input", 8 EN (in) "Charge-enable input. Active-high enable input with internal pull down. Low-current stand-by mode active when EN is low.", 9 VSEL (in) "4.1 V or 4.2 V charge regulation selection input", 10 GND/HEATSINK (power) "Ground pin; connect to PowerPAD heat-sink layout pattern", 11 N/C "No connect. These pins must be left floating.", 12 CR "Internal regulator bypass capacitor", 13 TMR SEL "Charge timer selection input", 14 STAT1 (oc) "Status display output 1", 15 STAT2 (oc) "Status display output 2 (for bq24002 and bq24003 only)", 16 AGND (power) "Ground pin; connect close to the negative battery terminal", 17 VSENSE (in) "Battery voltage sense input", 18 OUT (power) "Charge current output", 19 OUT (power) "Charge current output", 20 N/C "No connect. These pins must be left floating.", 21 EP (power) "Exposed Thermal Pad"

## BQ24002PWPG4
designator U?
Linear 1-Cell Li-Ion Battery Charger with Integrated FET, Two LED, 4.5 V, -20 to 70 degC, 20-pin HTSSOP (PWP), Green (RoHS & no Sb/Br); PartNumber: BQ24002PWPG4; Manufacturer: Texas Instruments; Lead Acid: N; Li-Ion: Y; SubFamily: Battery Charge Management; Vin(Min)(V): 4.5; DatasheetVersion: SLUS462E; PackageVersion: revI, May-2011; PackageReference: PWP20-3005X2005TP; PackageDescription: 20-Pin PowerPAD Plastic Small Outline 6.5 x 4.4 mm Body ,0.65 mm Pitch, Exposed Pad; Supplier 1: Digi-Key; Supplier Part Number 1: BQ24002PWPG4-ND; Supplier 2: Farnell; Supplier Part Number 2: 1206834; Supplier 3: Newark; Supplier Part Number 3: 43K9061; Supplier 4: Mouser; Supplier Part Number 4: 595-BQ24002PWPG4; Eco-Plan: Green (RoHS & no Sb/Br); Li-Polymer: Y; NiCd: N; NiMH: N; Over Voltage Protection: N; Mounting Technology: Surface Mount; Code_JEDEC: MO-153; ComponentLink1Description: Datasheet; ComponentLink1URL: http://www.ti.com/general/docs/lit/getliterature.tsp?genericPartNumber=BQ24002&fileType=pdf
footprint PWP20-3005X2005TP_N (TSOP, 20-Leads, Body 6.5x4.4mm, Pitch 0.65mm, Thermal Pad 3.7x2.4 mm, IPC Medium Density)
footprint PWP20-3005X2005TP_L (TSOP, 20-Leads, Body 6.5x4.4mm, Pitch 0.65mm, Thermal Pad 3.7x2.4 mm, IPC High Density)
footprint PWP20-3005X2005TP_M (TSOP, 20-Leads, Body 6.5x4.4mm, Pitch 0.65mm, Thermal Pad 3.7x2.4 mm, IPC Low Density)
pins: 1 N/C "No connect. These pins must be left floating.", 2 IN (power) "Input voltage. This input provides the charging voltage for the battery.", 3 IN (power) "Input voltage. This input provides the charging voltage for the battery.", 4 VCC (power) "Supply voltage", 5 ISNS (in) "Current sense input", 6 N/C "No connect. These pins must be left floating.", 7 APG/THERM (in) "Adapter power good input/thermistor sense input", 8 EN (in) "Charge-enable input. Active-high enable input with internal pull down. Low-current stand-by mode active when EN is low.", 9 VSEL (in) "4.1 V or 4.2 V charge regulation selection input", 10 GND/HEATSINK (power) "Ground pin; connect to PowerPAD heat-sink layout pattern", 11 N/C "No connect. These pins must be left floating.", 12 CR "Internal regulator bypass capacitor", 13 TMR SEL "Charge timer selection input", 14 STAT1 (oc) "Status display output 1", 15 STAT2 (oc) "Status display output 2 (for bq24002 and bq24003 only)", 16 AGND (power) "Ground pin; connect close to the negative battery terminal", 17 VSENSE (in) "Battery voltage sense input", 18 OUT (power) "Charge current output", 19 OUT (power) "Charge current output", 20 N/C "No connect. These pins must be left floating.", 21 EP (power) "Exposed Thermal Pad"

## BQ24002PWPR
designator U?
Linear 1-Cell Li-Ion Battery Charger with Integrated FET, Two LED, 4.5 V, -20 to 70 degC, 20-pin HTSSOP (PWP), Green (RoHS & no Sb/Br); PartNumber: BQ24002PWPR; Manufacturer: Texas Instruments; Lead Acid: N; Li-Ion: Y; SubFamily: Battery Charge Management; Vin(Min)(V): 4.5; DatasheetVersion: SLUS462E; PackageVersion: revI, May-2011; PackageReference: PWP20-3005X2005TP; PackageDescription: 20-Pin PowerPAD Plastic Small Outline 6.5 x 4.4 mm Body ,0.65 mm Pitch, Exposed Pad; Supplier 1: Digi-Key; Supplier Part Number 1: BQ24002PWPR-ND; Supplier 2: Newark; Supplier Part Number 2: 74C7634; Supplier 3: Mouser; Supplier Part Number 3: 595-BQ24002PWPR; Eco-Plan: Green (RoHS & no Sb/Br); Li-Polymer: Y; NiCd: N; NiMH: N; Over Voltage Protection: N; Mounting Technology: Surface Mount; Code_JEDEC: MO-153; ComponentLink1Description: Datasheet; ComponentLink1URL: http://www.ti.com/general/docs/lit/getliterature.tsp?genericPartNumber=BQ24002&fileType=pdf
footprint PWP20-3005X2005TP_N (TSOP, 20-Leads, Body 6.5x4.4mm, Pitch 0.65mm, Thermal Pad 3.7x2.4 mm, IPC Medium Density)
footprint PWP20-3005X2005TP_L (TSOP, 20-Leads, Body 6.5x4.4mm, Pitch 0.65mm, Thermal Pad 3.7x2.4 mm, IPC High Density)
footprint PWP20-3005X2005TP_M (TSOP, 20-Leads, Body 6.5x4.4mm, Pitch 0.65mm, Thermal Pad 3.7x2.4 mm, IPC Low Density)
pins: 1 N/C "No connect. These pins must be left floating.", 2 IN (power) "Input voltage. This input provides the charging voltage for the battery.", 3 IN (power) "Input voltage. This input provides the charging voltage for the battery.", 4 VCC (power) "Supply voltage", 5 ISNS (in) "Current sense input", 6 N/C "No connect. These pins must be left floating.", 7 APG/THERM (in) "Adapter power good input/thermistor sense input", 8 EN (in) "Charge-enable input. Active-high enable input with internal pull down. Low-current stand-by mode active when EN is low.", 9 VSEL (in) "4.1 V or 4.2 V charge regulation selection input", 10 GND/HEATSINK (power) "Ground pin; connect to PowerPAD heat-sink layout pattern", 11 N/C "No connect. These pins must be left floating.", 12 CR "Internal regulator bypass capacitor", 13 TMR SEL "Charge timer selection input", 14 STAT1 (oc) "Status display output 1", 15 STAT2 (oc) "Status display output 2 (for bq24002 and bq24003 only)", 16 AGND (power) "Ground pin; connect close to the negative battery terminal", 17 VSENSE (in) "Battery voltage sense input", 18 OUT (power) "Charge current output", 19 OUT (power) "Charge current output", 20 N/C "No connect. These pins must be left floating.", 21 EP (power) "Exposed Thermal Pad"

## BQ24002PWPRG4
designator U?
Linear 1-Cell Li-Ion Battery Charger with Integrated FET, Two LED, 4.5 V, -20 to 70 degC, 20-pin HTSSOP (PWP), Green (RoHS & no Sb/Br); PartNumber: BQ24002PWPRG4; Manufacturer: Texas Instruments; Lead Acid: N; Li-Ion: Y; SubFamily: Battery Charge Management; Vin(Min)(V): 4.5; DatasheetVersion: SLUS462E; PackageVersion: revI, May-2011; PackageReference: PWP20-3005X2005TP; PackageDescription: 20-Pin PowerPAD Plastic Small Outline 6.5 x 4.4 mm Body ,0.65 mm Pitch, Exposed Pad; Supplier 1: Digi-Key; Supplier Part Number 1: BQ24002PWPRG4-ND; Supplier 2: Newark; Supplier Part Number 2: 43K9062; Supplier 3: Mouser; Supplier Part Number 3: 595-BQ24002PWPRG4; Eco-Plan: Green (RoHS & no Sb/Br); Li-Polymer: Y; NiCd: N; NiMH: N; Over Voltage Protection: N; Mounting Technology: Surface Mount; Code_JEDEC: MO-153; ComponentLink1Description: Datasheet; ComponentLink1URL: http://www.ti.com/general/docs/lit/getliterature.tsp?genericPartNumber=BQ24002&fileType=pdf
footprint PWP20-3005X2005TP_N (TSOP, 20-Leads, Body 6.5x4.4mm, Pitch 0.65mm, Thermal Pad 3.7x2.4 mm, IPC Medium Density)
footprint PWP20-3005X2005TP_L (TSOP, 20-Leads, Body 6.5x4.4mm, Pitch 0.65mm, Thermal Pad 3.7x2.4 mm, IPC High Density)
footprint PWP20-3005X2005TP_M (TSOP, 20-Leads, Body 6.5x4.4mm, Pitch 0.65mm, Thermal Pad 3.7x2.4 mm, IPC Low Density)
pins: 1 N/C "No connect. These pins must be left floating.", 2 IN (power) "Input voltage. This input provides the charging voltage for the battery.", 3 IN (power) "Input voltage. This input provides the charging voltage for the battery.", 4 VCC (power) "Supply voltage", 5 ISNS (in) "Current sense input", 6 N/C "No connect. These pins must be left floating.", 7 APG/THERM (in) "Adapter power good input/thermistor sense input", 8 EN (in) "Charge-enable input. Active-high enable input with internal pull down. Low-current stand-by mode active when EN is low.", 9 VSEL (in) "4.1 V or 4.2 V charge regulation selection input", 10 GND/HEATSINK (power) "Ground pin; connect to PowerPAD heat-sink layout pattern", 11 N/C "No connect. These pins must be left floating.", 12 CR "Internal regulator bypass capacitor", 13 TMR SEL "Charge timer selection input", 14 STAT1 (oc) "Status display output 1", 15 STAT2 (oc) "Status display output 2 (for bq24002 and bq24003 only)", 16 AGND (power) "Ground pin; connect close to the negative battery terminal", 17 VSENSE (in) "Battery voltage sense input", 18 OUT (power) "Charge current output", 19 OUT (power) "Charge current output", 20 N/C "No connect. These pins must be left floating.", 21 EP (power) "Exposed Thermal Pad"